# Altium schematic symbol library BLM21PG331SN1D.SchLib: 1 symbol
Pins are listed as number, name and electrical type; pins without a type are passive.

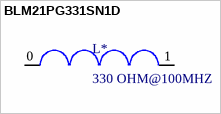
[diagram p0: symbol BLM21PG331SN1D]

## BLM21PG331SN1D
designator L*, comment 330 OHM@100MHZ
330 OHM@100MHZ, 0805 (2012 Metric) SMD
footprint BLM21PG331SN1D (0805 (2012 metric) SMD inductor)
pins: 0, 1 0